# Altium integrated library WE-MI SMD Multilayer Inductor.IntLib: 59 symbols
Pins are listed as number, name and electrical type; pins without a type are passive.

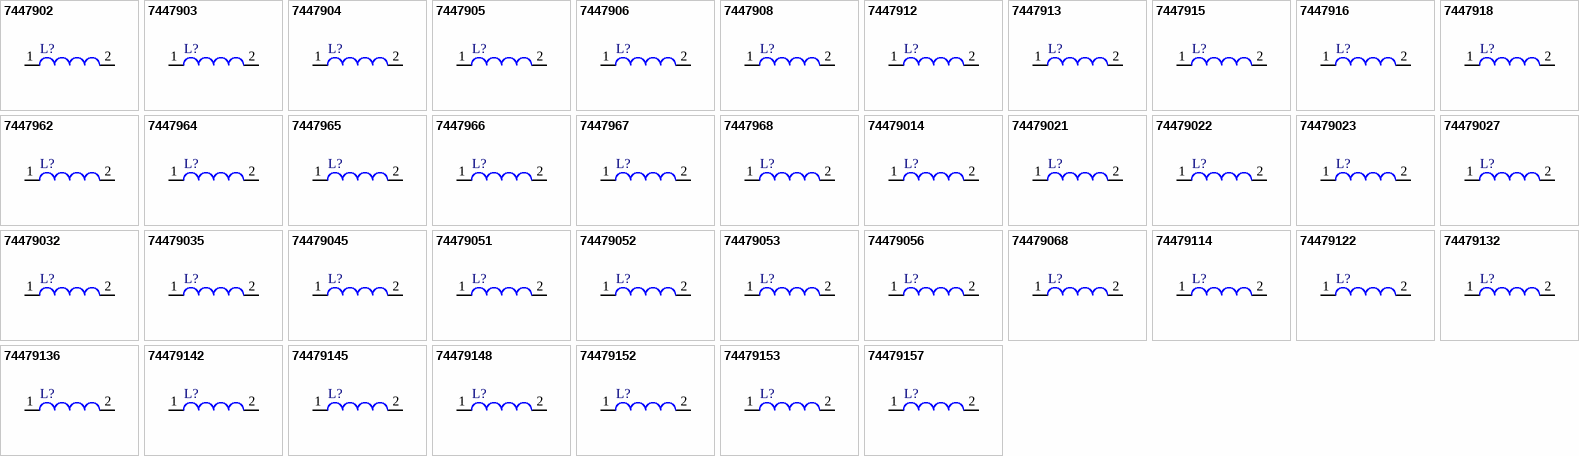
[diagram p0: symbols 7447902 to 74479157]

## 7447902
designator L?
SMD-Multilayer Inductor WE-MI, L = 0.10 µH; PartNumber: 7447902; Inductance: 0.10 µH; DatasheetVersion: ver 4, Oct-2004; PackageReference: SMD-0805; PackageDescription: Chip Inductor, 2-Leads, Body 2.0 x 1.2 mm; ComponentLink1Description: Manufacturer URL; ComponentLink1URL: http://www.we-online.com; ComponentLink2Description: Datasheet; ComponentLink2URL: http://www.we-online.de/katalog/media/pdf/7447902.pdf
footprint SMD-0805 (Chip Inductor, 2-Leads, Body 2.0x1.2x1.1 mm)
pins: 1, 2

## 7447903
designator L?
SMD-Multilayer Inductor WE-MI, L = 0.33 µH; PartNumber: 7447903; Inductance: 0.33 µH; DatasheetVersion: ver 4, Oct-2004; PackageReference: SMD-0805; PackageDescription: Chip Inductor, 2-Leads, Body 2.0 x 1.2 mm; ComponentLink1Description: Manufacturer URL; ComponentLink1URL: http://www.we-online.com; ComponentLink2Description: Datasheet; ComponentLink2URL: http://www.we-online.de/katalog/media/pdf/7447903.pdf
footprint SMD-0805 (Chip Inductor, 2-Leads, Body 2.0x1.2x1.1 mm)
pins: 1, 2

## 7447904
designator L?
SMD-Multilayer Inductor WE-MI, L = 0.68 µH; PartNumber: 7447904; Inductance: 0.68 µH; DatasheetVersion: ver 5, Jun-2008; PackageReference: SMD-0805; PackageDescription: Chip Inductor, 2-Leads, Body 2.0 x 1.2 mm; ComponentLink1Description: Manufacturer URL; ComponentLink1URL: http://www.we-online.com; ComponentLink2Description: Datasheet; ComponentLink2URL: http://www.we-online.de/katalog/media/pdf/7447904.pdf
footprint SMD-0805 (Chip Inductor, 2-Leads, Body 2.0x1.2x1.1 mm)
pins: 1, 2

## 7447905
designator L?
SMD-Multilayer Inductor WE-MI, L = 1.00 µH; PartNumber: 7447905; Inductance: 1.00 µH; DatasheetVersion: ver 4, Oct-2004; PackageReference: SMD-0805; PackageDescription: Chip Inductor, 2-Leads, Body 2.0 x 1.2 mm; ComponentLink1Description: Manufacturer URL; ComponentLink1URL: http://www.we-online.com; ComponentLink2Description: Datasheet; ComponentLink2URL: http://www.we-online.de/katalog/media/pdf/7447905.pdf
footprint SMD-0805 (Chip Inductor, 2-Leads, Body 2.0x1.2x1.1 mm)
pins: 1, 2

## 7447906
designator L?
SMD-Multilayer Inductor WE-MI, L = 4.70 µH; PartNumber: 7447906; Inductance: 4.70 µH; DatasheetVersion: ver 4, Oct-2004; PackageReference: SMD-0805; PackageDescription: Chip Inductor, 2-Leads, Body 2.0 x 1.2 mm; ComponentLink1Description: Manufacturer URL; ComponentLink1URL: http://www.we-online.com; ComponentLink2Description: Datasheet; ComponentLink2URL: http://www.we-online.de/katalog/media/pdf/7447906.pdf
footprint SMD-0805 (Chip Inductor, 2-Leads, Body 2.0x1.2x1.1 mm)
pins: 1, 2

## 7447908
designator L?
SMD-Multilayer Inductor WE-MI, L = 10.00 µH; PartNumber: 7447908; DatasheetVersion: ver 4, Oct-2004; PackageReference: SMD-0805; PackageDescription: Chip Inductor, 2-Leads, Body 2.0 x 1.2 mm; Inductance: 10.00 µH; ComponentLink1Description: Manufacturer URL; ComponentLink1URL: http://www.we-online.com; ComponentLink2Description: Datasheet; ComponentLink2URL: http://www.we-online.de/katalog/media/pdf/7447908.pdf
footprint SMD-0805 (Chip Inductor, 2-Leads, Body 2.0x1.2x1.1 mm)
pins: 1, 2

## 7447912
designator L?
SMD-Multilayer Inductor WE-MI, L = 0.10 µH; PartNumber: 7447912; Inductance: 0.10 µH; DatasheetVersion: ver 5, Oct-2004; PackageReference: SMD-1210; PackageDescription: Chip Inductor, 2-Leads, Body 3.2 x 2.5 mm; ComponentLink1Description: Manufacturer URL; ComponentLink1URL: http://www.we-online.com; ComponentLink2Description: Datasheet; ComponentLink2URL: http://www.we-online.de/katalog/media/pdf/7447912.pdf
footprint SMD-1210 (Chip Inductor, 2-Leads, Body 3.2x2.5x1.5 mm)
pins: 1, 2

## 7447913
designator L?
SMD-Multilayer Inductor WE-MI, L = 0.33 µH; PartNumber: 7447913; Inductance: 0.33 µH; DatasheetVersion: ver 5, Oct-2004; PackageReference: SMD-1210; PackageDescription: Chip Inductor, 2-Leads, Body 3.2 x 2.5 mm; ComponentLink1Description: Manufacturer URL; ComponentLink1URL: http://www.we-online.com; ComponentLink2Description: Datasheet; ComponentLink2URL: http://www.we-online.de/katalog/media/pdf/7447913.pdf
footprint SMD-1210 (Chip Inductor, 2-Leads, Body 3.2x2.5x1.5 mm)
pins: 1, 2

## 7447915
designator L?
SMD-Multilayer Inductor WE-MI, L = 1.00 µH; PartNumber: 7447915; Inductance: 1.00 µH; DatasheetVersion: ver 5, Oct-2004; PackageReference: SMD-1210; PackageDescription: Chip Inductor, 2-Leads, Body 3.2 x 2.5 mm; ComponentLink1Description: Manufacturer URL; ComponentLink1URL: http://www.we-online.com; ComponentLink2Description: Datasheet; ComponentLink2URL: http://www.we-online.de/katalog/media/pdf/7447915.pdf
footprint SMD-1210 (Chip Inductor, 2-Leads, Body 3.2x2.5x1.5 mm)
pins: 1, 2

## 7447916
designator L?
SMD-Multilayer Inductor WE-MI, L = 4.70 µH; PartNumber: 7447916; Inductance: 4.70 µH; DatasheetVersion: ver 5, Oct-2004; PackageReference: SMD-1210; PackageDescription: Chip Inductor, 2-Leads, Body 3.2 x 2.5 mm; ComponentLink1Description: Manufacturer URL; ComponentLink1URL: http://www.we-online.com; ComponentLink2Description: Datasheet; ComponentLink2URL: http://www.we-online.de/katalog/media/pdf/7447916.pdf
footprint SMD-1210 (Chip Inductor, 2-Leads, Body 3.2x2.5x1.5 mm)
pins: 1, 2

## 7447918
designator L?
SMD-Multilayer Inductor WE-MI, L = 10.00 µH; PartNumber: 7447918; DatasheetVersion: ver 5, Oct-2004; PackageReference: SMD-1210; PackageDescription: Chip Inductor, 2-Leads, Body 3.2 x 2.5 mm; Inductance: 10.00 µH; ComponentLink1Description: Manufacturer URL; ComponentLink1URL: http://www.we-online.com; ComponentLink2Description: Datasheet; ComponentLink2URL: http://www.we-online.de/katalog/media/pdf/7447918.pdf
footprint SMD-1210 (Chip Inductor, 2-Leads, Body 3.2x2.5x1.5 mm)
pins: 1, 2

## 7447962
designator L?
SMD-Multilayer Inductor WE-MI, L = 0.10µH; PartNumber: 7447962; DatasheetVersion: ver 5, Oct-2004; PackageReference: SMD-0603; PackageDescription: Chip Inductor, 2-Leads, Body 1.6 x 0.8 mm; Inductance: 0.10 µH; ComponentLink1Description: Manufacturer URL; ComponentLink1URL: http://www.we-online.com; ComponentLink2Description: Datasheet; ComponentLink2URL: http://www.we-online.de/katalog/media/pdf/7447962.pdf
footprint SMD-0603 (Chip Inductor, 2-Leads, Body 1.6x0.8x0.95 mm)
pins: 1, 2

## 7447964
designator L?
SMD-Multilayer Inductor WE-MI, L = 0.68 µH; PartNumber: 7447964; Inductance: 0.68 µH; DatasheetVersion: ver 1, Mar-2009; PackageReference: SMD-0603; PackageDescription: Chip Inductor, 2-Leads, Body 1.6 x 0.8 mm; ComponentLink1Description: Manufacturer URL; ComponentLink1URL: http://www.we-online.com; ComponentLink2Description: Datasheet; ComponentLink2URL: http://www.we-online.de/katalog/media/pdf/7447964.pdf
footprint SMD-0603 (Chip Inductor, 2-Leads, Body 1.6x0.8x0.95 mm)
pins: 1, 2

## 7447965
designator L?
SMD-Multilayer Inductor WE-MI, L = 1.00 µH; PartNumber: 7447965; Inductance: 1.00 µH; DatasheetVersion: ver 5, Oct-2004; PackageReference: SMD-0603; PackageDescription: Chip Inductor, 2-Leads, Body 1.6 x 0.8 mm; ComponentLink1Description: Manufacturer URL; ComponentLink1URL: http://www.we-online.com; ComponentLink2Description: Datasheet; ComponentLink2URL: http://www.we-online.de/katalog/media/pdf/7447965.pdf
footprint SMD-0603 (Chip Inductor, 2-Leads, Body 1.6x0.8x0.95 mm)
pins: 1, 2

## 7447966
designator L?
SMD-Multilayer Inductor WE-MI, L = 4.70 µH; PartNumber: 7447966; Inductance: 4.70 µH; DatasheetVersion: ver 5, Oct-2004; PackageReference: SMD-0603; PackageDescription: Chip Inductor, 2-Leads, Body 1.6 x 0.8 mm; ComponentLink1Description: Manufacturer URL; ComponentLink1URL: http://www.we-online.com; ComponentLink2Description: Datasheet; ComponentLink2URL: http://www.we-online.de/katalog/media/pdf/7447966.pdf
footprint SMD-0603 (Chip Inductor, 2-Leads, Body 1.6x0.8x0.95 mm)
pins: 1, 2

## 7447967
designator L?
SMD-Multilayer Inductor WE-MI, L = 8.20 µH; PartNumber: 7447967; Inductance: 8.20 µH; DatasheetVersion: ver 5, Oct-2004; PackageReference: SMD-0603; PackageDescription: Chip Inductor, 2-Leads, Body 1.6 x 0.8 mm; ComponentLink1Description: Manufacturer URL; ComponentLink1URL: http://www.we-online.com; ComponentLink2Description: Datasheet; ComponentLink2URL: http://www.we-online.de/katalog/media/pdf/7447967.pdf
footprint SMD-0603 (Chip Inductor, 2-Leads, Body 1.6x0.8x0.95 mm)
pins: 1, 2

## 7447968
designator L?
SMD-Multilayer Inductor WE-MI, L = 10.00 µH; PartNumber: 7447968; DatasheetVersion: ver 5, Oct-2004; PackageReference: SMD-0603; PackageDescription: Chip Inductor, 2-Leads, Body 1.6 x 0.8 mm; Inductance: 10.00 µH; ComponentLink1Description: Manufacturer URL; ComponentLink1URL: http://www.we-online.com; ComponentLink2Description: Datasheet; ComponentLink2URL: http://www.we-online.de/katalog/media/pdf/7447968.pdf
footprint SMD-0603 (Chip Inductor, 2-Leads, Body 1.6x0.8x0.95 mm)
pins: 1, 2

## 74479014
designator L?
SMD-Multilayer Inductor WE-MI, L = 0.047 µH; PartNumber: 74479014; DatasheetVersion: ver 4, Oct-2004; PackageReference: SMD-0805; PackageDescription: Chip Inductor, 2-Leads, Body 2.0 x 1.2 mm; Inductance: 0.047 µH; ComponentLink1Description: Manufacturer URL; ComponentLink1URL: http://www.we-online.com; ComponentLink2Description: Datasheet; ComponentLink2URL: http://www.we-online.de/katalog/media/pdf/74479014.pdf
footprint SMD-0805 (Chip Inductor, 2-Leads, Body 2.0x1.2x1.1 mm)
pins: 1, 2

## 74479021
designator L?
SMD-Multilayer Inductor WE-MI, L = 0.10 µH; PartNumber: 74479021; Inductance: 0.10 µH; DatasheetVersion: ver 4, Oct-2004; PackageReference: SMD-0805; PackageDescription: Chip Inductor, 2-Leads, Body 2.0 x 1.2 mm; ComponentLink1Description: Manufacturer URL; ComponentLink1URL: http://www.we-online.com; ComponentLink2Description: Datasheet; ComponentLink2URL: http://www.we-online.de/katalog/media/pdf/74479021.pdf
footprint SMD-0805 (Chip Inductor, 2-Leads, Body 2.0x1.2x1.1 mm)
pins: 1, 2

## 74479022
designator L?
SMD-Multilayer Inductor WE-MI, L = 0.15 µH; PartNumber: 74479022; Inductance: 0.15 µH; DatasheetVersion: ver 4, Oct-2004; PackageReference: SMD-0805; PackageDescription: Chip Inductor, 2-Leads, Body 2.0 x 1.2 mm; ComponentLink1Description: Manufacturer URL; ComponentLink1URL: http://www.we-online.com; ComponentLink2Description: Datasheet; ComponentLink2URL: http://www.we-online.de/katalog/media/pdf/74479022.pdf
footprint SMD-0805 (Chip Inductor, 2-Leads, Body 2.0x1.2x1.1 mm)
pins: 1, 2

## 74479023
designator L?
SMD-Multilayer Inductor WE-MI, L = 0.22 µH; PartNumber: 74479023; Inductance: 0.22 µH; DatasheetVersion: ver 4, Oct-2004; PackageReference: SMD-0805; PackageDescription: Chip Inductor, 2-Leads, Body 2.0 x 1.2 mm; ComponentLink1Description: Manufacturer URL; ComponentLink1URL: http://www.we-online.com; ComponentLink2Description: Datasheet; ComponentLink2URL: http://www.we-online.de/katalog/media/pdf/74479023.pdf
footprint SMD-0805 (Chip Inductor, 2-Leads, Body 2.0x1.2x1.1 mm)
pins: 1, 2

## 74479027
designator L?
SMD-Multilayer Inductor WE-MI, L = 0.27 µH; PartNumber: 74479027; Inductance: 0.27 µH; DatasheetVersion: ver 4, Oct-2004; PackageReference: SMD-0805; PackageDescription: Chip Inductor, 2-Leads, Body 2.0 x 1.2 mm; ComponentLink1Description: Manufacturer URL; ComponentLink1URL: http://www.we-online.com; ComponentLink2Description: Datasheet; ComponentLink2URL: http://www.we-online.de/katalog/media/pdf/74479027.pdf
footprint SMD-0805 (Chip Inductor, 2-Leads, Body 2.0x1.2x1.1 mm)
pins: 1, 2

## 74479032
designator L?
SMD-Multilayer Inductor WE-MI, L = 0.47 µH; PartNumber: 74479032; Inductance: 0.47 µH; DatasheetVersion: ver 4, Oct-2004; PackageReference: SMD-0805; PackageDescription: Chip Inductor, 2-Leads, Body 2.0 x 1.2 mm; ComponentLink1Description: Manufacturer URL; ComponentLink1URL: http://www.we-online.com; ComponentLink2Description: Datasheet; ComponentLink2URL: http://www.we-online.de/katalog/media/pdf/74479032.pdf
footprint SMD-0805 (Chip Inductor, 2-Leads, Body 2.0x1.2x1.1 mm)
pins: 1, 2

## 74479035
designator L?
SMD-Multilayer Inductor WE-MI, L = 0.56 µH; PartNumber: 74479035; Inductance: 0.56 µH; DatasheetVersion: ver 1, Nov-2006; PackageReference: SMD-0805; PackageDescription: Chip Inductor, 2-Leads, Body 2.0 x 1.2 mm; ComponentLink1Description: Manufacturer URL; ComponentLink1URL: http://www.we-online.com; ComponentLink2Description: Datasheet; ComponentLink2URL: http://www.we-online.de/katalog/media/pdf/74479035.pdf
footprint SMD-0805 (Chip Inductor, 2-Leads, Body 2.0x1.2x1.1 mm)
pins: 1, 2

## 74479045
designator L?
SMD-Multilayer Inductor WE-MI, L = 0.82 µH; PartNumber: 74479045; Inductance: 0.82 µH; DatasheetVersion: ver 5, Jun-2008; PackageReference: SMD-0805; PackageDescription: Chip Inductor, 2-Leads, Body 2.0 x 1.2 mm; ComponentLink1Description: Manufacturer URL; ComponentLink1URL: http://www.we-online.com; ComponentLink2Description: Datasheet; ComponentLink2URL: http://www.we-online.de/katalog/media/pdf/74479045.pdf
footprint SMD-0805 (Chip Inductor, 2-Leads, Body 2.0x1.2x1.1 mm)
pins: 1, 2

## 74479051
designator L?
SMD-Multilayer Inductor WE-MI, L = 1.80 µH; PartNumber: 74479051; Inductance: 1.80 µH; DatasheetVersion: ver 4, Oct-2004; PackageReference: SMD-0805; PackageDescription: Chip Inductor, 2-Leads, Body 2.0 x 1.2 mm; ComponentLink1Description: Manufacturer URL; ComponentLink1URL: http://www.we-online.com; ComponentLink2Description: Datasheet; ComponentLink2URL: http://www.we-online.de/katalog/media/pdf/74479051.pdf
footprint SMD-0805 (Chip Inductor, 2-Leads, Body 2.0x1.2x1.1 mm)
pins: 1, 2

## 74479052
designator L?
SMD-Multilayer Inductor WE-MI, L = 2.20 µH; PartNumber: 74479052; Inductance: 2.20 µH; DatasheetVersion: ver 4, Oct-2004; PackageReference: SMD-0805; PackageDescription: Chip Inductor, 2-Leads, Body 2.0 x 1.2 mm; ComponentLink1Description: Manufacturer URL; ComponentLink1URL: http://www.we-online.com; ComponentLink2Description: Datasheet; ComponentLink2URL: http://www.we-online.de/katalog/media/pdf/74479052.pdf
footprint SMD-0805 (Chip Inductor, 2-Leads, Body 2.0x1.2x1.1 mm)
pins: 1, 2

## 74479053
designator L?
SMD-Multilayer Inductor WE-MI, L = 3.30 µH; PartNumber: 74479053; Inductance: 3.30 µH; DatasheetVersion: ver 4, Oct-2004; PackageReference: SMD-0805; PackageDescription: Chip Inductor, 2-Leads, Body 2.0 x 1.2 mm; ComponentLink1Description: Manufacturer URL; ComponentLink1URL: http://www.we-online.com; ComponentLink2Description: Datasheet; ComponentLink2URL: http://www.we-online.de/katalog/media/pdf/74479053.pdf
footprint SMD-0805 (Chip Inductor, 2-Leads, Body 2.0x1.2x1.1 mm)
pins: 1, 2

## 74479056
designator L?
SMD-Multilayer Inductor WE-MI, L = 5.60 µH; PartNumber: 74479056; Inductance: 5.60 µH; DatasheetVersion: ver 4, Oct-2004; PackageReference: SMD-0805; PackageDescription: Chip Inductor, 2-Leads, Body 2.0 x 1.2 mm; ComponentLink1Description: Manufacturer URL; ComponentLink1URL: http://www.we-online.com; ComponentLink2Description: Datasheet; ComponentLink2URL: http://www.we-online.de/katalog/media/pdf/74479056.pdf
footprint SMD-0805 (Chip Inductor, 2-Leads, Body 2.0x1.2x1.1 mm)
pins: 1, 2

## 74479068
designator L?
SMD-Multilayer Inductor WE-MI, L = 6.80 µH; PartNumber: 74479068; Inductance: 6.80 µH; DatasheetVersion: ver 4, Oct-2004; PackageReference: SMD-0805; PackageDescription: Chip Inductor, 2-Leads, Body 2.0 x 1.2 mm; ComponentLink1Description: Manufacturer URL; ComponentLink1URL: http://www.we-online.com; ComponentLink2Description: Datasheet; ComponentLink2URL: http://www.we-online.de/katalog/media/pdf/74479068.pdf
footprint SMD-0805 (Chip Inductor, 2-Leads, Body 2.0x1.2x1.1 mm)
pins: 1, 2

## 74479114
designator L?
SMD-Multilayer Inductor WE-MI, L = 0.047 µH; PartNumber: 74479114; DatasheetVersion: ver 5, Oct-2004; PackageReference: SMD-1210; PackageDescription: Chip Inductor, 2-Leads, Body 3.2 x 2.5 mm; Inductance: 0.047 µH; ComponentLink1Description: Manufacturer URL; ComponentLink1URL: http://www.we-online.com; ComponentLink2Description: Datasheet; ComponentLink2URL: http://www.we-online.de/katalog/media/pdf/74479114.pdf
footprint SMD-1210 (Chip Inductor, 2-Leads, Body 3.2x2.5x1.5 mm)
pins: 1, 2

## 74479122
designator L?
SMD-Multilayer Inductor WE-MI, L = 0.15 µH; PartNumber: 74479122; Inductance: 0.15 µH; DatasheetVersion: ver 5, Oct-2004; PackageReference: SMD-1210; PackageDescription: Chip Inductor, 2-Leads, Body 3.2 x 2.5 mm; ComponentLink1Description: Manufacturer URL; ComponentLink1URL: http://www.we-online.com; ComponentLink2Description: Datasheet; ComponentLink2URL: http://www.we-online.de/katalog/media/pdf/74479122.pdf
footprint SMD-1210 (Chip Inductor, 2-Leads, Body 3.2x2.5x1.5 mm)
pins: 1, 2

## 74479132
designator L?
SMD-Multilayer Inductor WE-MI, L = 0.47 µH; PartNumber: 74479132; Inductance: 0.47 µH; DatasheetVersion: ver 5, Oct-2004; PackageReference: SMD-1210; PackageDescription: Chip Inductor, 2-Leads, Body 3.2 x 2.5 mm; ComponentLink1Description: Manufacturer URL; ComponentLink1URL: http://www.we-online.com; ComponentLink2Description: Datasheet; ComponentLink2URL: http://www.we-online.de/katalog/media/pdf/74479132.pdf
footprint SMD-1210 (Chip Inductor, 2-Leads, Body 3.2x2.5x1.5 mm)
pins: 1, 2

## 74479136
designator L?
SMD-Multilayer Inductor WE-MI, L = 0.68 µH; PartNumber: 74479136; Inductance: 0.68 µH; DatasheetVersion: ver 5, Oct-2004; PackageReference: SMD-1210; PackageDescription: Chip Inductor, 2-Leads, Body 3.2 x 2.5 mm; ComponentLink1Description: Manufacturer URL; ComponentLink1URL: http://www.we-online.com; ComponentLink2Description: Datasheet; ComponentLink2URL: http://www.we-online.de/katalog/media/pdf/74479136.pdf
footprint SMD-1210 (Chip Inductor, 2-Leads, Body 3.2x2.5x1.5 mm)
pins: 1, 2

## 74479142
designator L?
SMD-Multilayer Inductor WE-MI, L = 1.20 µH; PartNumber: 74479142; Inductance: 1.20 µH; DatasheetVersion: ver 5, Oct-2004; PackageReference: SMD-1210; PackageDescription: Chip Inductor, 2-Leads, Body 3.2 x 2.5 mm; ComponentLink1Description: Manufacturer URL; ComponentLink1URL: http://www.we-online.com; ComponentLink2Description: Datasheet; ComponentLink2URL: http://www.we-online.de/katalog/media/pdf/74479142.pdf
footprint SMD-1210 (Chip Inductor, 2-Leads, Body 3.2x2.5x1.5 mm)
pins: 1, 2

## 74479145
designator L?
SMD-Multilayer Inductor WE-MI, L = 1.50 µH; PartNumber: 74479145; Inductance: 1.50 µH; DatasheetVersion: ver 5, Oct-2004; PackageReference: SMD-1210; PackageDescription: Chip Inductor, 2-Leads, Body 3.2 x 2.5 mm; ComponentLink1Description: Manufacturer URL; ComponentLink1URL: http://www.we-online.com; ComponentLink2Description: Datasheet; ComponentLink2URL: http://www.we-online.de/katalog/media/pdf/74479145.pdf
footprint SMD-1210 (Chip Inductor, 2-Leads, Body 3.2x2.5x1.5 mm)
pins: 1, 2

## 74479148
designator L?
SMD-Multilayer Inductor WE-MI, L = 1.80 µH; PartNumber: 74479148; Inductance: 1.80 µH; DatasheetVersion: ver 5, Oct-2004; PackageReference: SMD-1210; PackageDescription: Chip Inductor, 2-Leads, Body 3.2 x 2.5 mm; ComponentLink1Description: Manufacturer URL; ComponentLink1URL: http://www.we-online.com; ComponentLink2Description: Datasheet; ComponentLink2URL: http://www.we-online.de/katalog/media/pdf/74479148.pdf
footprint SMD-1210 (Chip Inductor, 2-Leads, Body 3.2x2.5x1.5 mm)
pins: 1, 2

## 74479152
designator L?
SMD-Multilayer Inductor WE-MI, L = 2.20 µH; PartNumber: 74479152; Inductance: 2.20 µH; DatasheetVersion: ver 5, Oct-2004; PackageReference: SMD-1210; PackageDescription: Chip Inductor, 2-Leads, Body 3.2 x 2.5 mm; ComponentLink1Description: Manufacturer URL; ComponentLink1URL: http://www.we-online.com; ComponentLink2Description: Datasheet; ComponentLink2URL: http://www.we-online.de/katalog/media/pdf/74479152.pdf
footprint SMD-1210 (Chip Inductor, 2-Leads, Body 3.2x2.5x1.5 mm)
pins: 1, 2

## 74479153
designator L?
SMD-Multilayer Inductor WE-MI, L = 3.30 µH; PartNumber: 74479153; Inductance: 3.30 µH; DatasheetVersion: ver 5, Oct-2004; PackageReference: SMD-1210; PackageDescription: Chip Inductor, 2-Leads, Body 3.2 x 2.5 mm; ComponentLink1Description: Manufacturer URL; ComponentLink1URL: http://www.we-online.com; ComponentLink2Description: Datasheet; ComponentLink2URL: http://www.we-online.de/katalog/media/pdf/74479153.pdf
footprint SMD-1210 (Chip Inductor, 2-Leads, Body 3.2x2.5x1.5 mm)
pins: 1, 2

## 74479157
designator L?
SMD-Multilayer Inductor WE-MI, L = 2.70 µH; PartNumber: 74479157; Inductance: 2.70 µH; DatasheetVersion: ver 5, Oct-2004; PackageReference: SMD-1210; PackageDescription: Chip Inductor, 2-Leads, Body 3.2 x 2.5 mm; ComponentLink1Description: Manufacturer URL; ComponentLink1URL: http://www.we-online.com; ComponentLink2Description: Datasheet; ComponentLink2URL: http://www.we-online.de/katalog/media/pdf/74479157.pdf
footprint SMD-1210 (Chip Inductor, 2-Leads, Body 3.2x2.5x1.5 mm)
pins: 1, 2

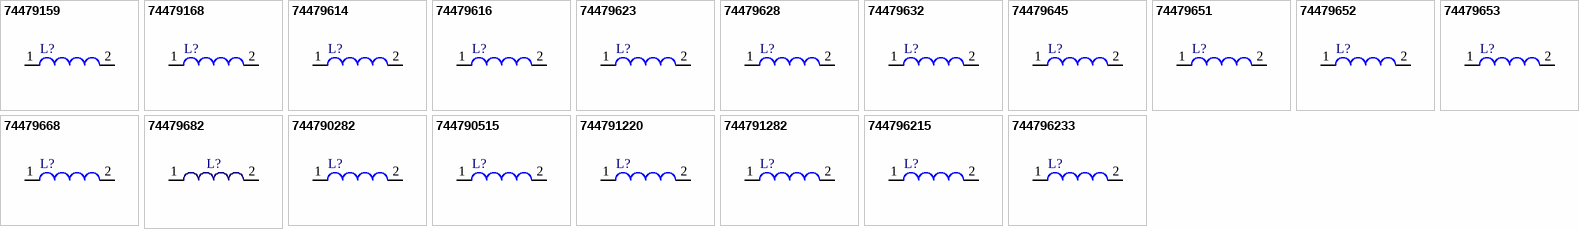
[diagram p1: symbols 74479159 to 744796233]

## 74479159
designator L?
SMD-Multilayer Inductor WE-MI, L = 3.90 µH; PartNumber: 74479159; Inductance: 3.90 µH; DatasheetVersion: ver 5, Oct-2004; PackageReference: SMD-1210; PackageDescription: Chip Inductor, 2-Leads, Body 3.2 x 2.5 mm; ComponentLink1Description: Manufacturer URL; ComponentLink1URL: http://www.we-online.com; ComponentLink2Description: Datasheet; ComponentLink2URL: http://www.we-online.de/katalog/media/pdf/74479159.pdf
footprint SMD-1210 (Chip Inductor, 2-Leads, Body 3.2x2.5x1.5 mm)
pins: 1, 2

## 74479168
designator L?
SMD-Multilayer Inductor WE-MI, L = 6.80 µH; PartNumber: 74479168; Inductance: 6.80 µH; DatasheetVersion: ver 5, Oct-2004; PackageReference: SMD-1210; PackageDescription: Chip Inductor, 2-Leads, Body 3.2 x 2.5 mm; ComponentLink1Description: Manufacturer URL; ComponentLink1URL: http://www.we-online.com; ComponentLink2Description: Datasheet; ComponentLink2URL: http://www.we-online.de/katalog/media/pdf/74479168.pdf
footprint SMD-1210 (Chip Inductor, 2-Leads, Body 3.2x2.5x1.5 mm)
pins: 1, 2

## 74479614
designator L?
SMD-Multilayer Inductor WE-MI, L = 0.047 µH; PartNumber: 74479614; DatasheetVersion: ver 5, Oct-2004; PackageReference: SMD-0603; PackageDescription: Chip Inductor, 2-Leads, Body 1.6 x 0.8 mm; Inductance: 0.047 µH; ComponentLink1Description: Manufacturer URL; ComponentLink1URL: http://www.we-online.com; ComponentLink2Description: Datasheet; ComponentLink2URL: http://www.we-online.de/katalog/media/pdf/74479614.pdf
footprint SMD-0603 (Chip Inductor, 2-Leads, Body 1.6x0.8x0.95 mm)
pins: 1, 2

## 74479616
designator L?
SMD-Multilayer Inductor WE-MI, L = 0.068 µH; PartNumber: 74479616; DatasheetVersion: ver 5, Oct-2004; PackageReference: SMD-0603; PackageDescription: Chip Inductor, 2-Leads, Body 1.6 x 0.8 mm; Inductance: 0.068 µH; ComponentLink1Description: Manufacturer URL; ComponentLink1URL: http://www.we-online.com; ComponentLink2Description: Datasheet; ComponentLink2URL: http://www.we-online.de/katalog/media/pdf/74479616.pdf
footprint SMD-0603 (Chip Inductor, 2-Leads, Body 1.6x0.8x0.95 mm)
pins: 1, 2

## 74479623
designator L?
SMD-Multilayer Inductor WE-MI, L = 0.22 µH; PartNumber: 74479623; Inductance: 0.22 µH; DatasheetVersion: ver 5, Oct-2004; PackageReference: SMD-0603; PackageDescription: Chip Inductor, 2-Leads, Body 1.6 x 0.8 mm; ComponentLink1Description: Manufacturer URL; ComponentLink1URL: http://www.we-online.com; ComponentLink2Description: Datasheet; ComponentLink2URL: http://www.we-online.de/katalog/media/pdf/74479623.pdf
footprint SMD-0603 (Chip Inductor, 2-Leads, Body 1.6x0.8x0.95 mm)
pins: 1, 2

## 74479628
designator L?
SMD-Multilayer Inductor WE-MI, L = 0.82 µH; PartNumber: 74479628; Inductance: 0.82 µH; DatasheetVersion: ver 5, Oct-2004; PackageReference: SMD-0603; PackageDescription: Chip Inductor, 2-Leads, Body 1.6 x 0.8 mm; ComponentLink1Description: Manufacturer URL; ComponentLink1URL: http://www.we-online.com; ComponentLink2Description: Datasheet; ComponentLink2URL: http://www.we-online.de/katalog/media/pdf/74479628.pdf
footprint SMD-0603 (Chip Inductor, 2-Leads, Body 1.6x0.8x0.95 mm)
pins: 1, 2

## 74479632
designator L?
SMD-Multilayer Inductor WE-MI, L = 0.47 µH; PartNumber: 74479632; Inductance: 0.47µH; DatasheetVersion: ver 5, Oct-2004; PackageReference: SMD-0603; PackageDescription: Chip Inductor, 2-Leads, Body 1.6 x 0.8 mm; ComponentLink1Description: Manufacturer URL; ComponentLink1URL: http://www.we-online.com; ComponentLink2Description: Datasheet; ComponentLink2URL: http://www.we-online.de/katalog/media/pdf/74479632.pdf
footprint SMD-0603 (Chip Inductor, 2-Leads, Body 1.6x0.8x0.95 mm)
pins: 1, 2

## 74479645
designator L?
SMD-Multilayer Inductor WE-MI, L = 0.56 µH; PartNumber: 74479645; Inductance: 0.56 µH; DatasheetVersion: ver 5, Oct-2004; PackageReference: SMD-0603; PackageDescription: Chip Inductor, 2-Leads, Body 1.6 x 0.8 mm; ComponentLink1Description: Manufacturer URL; ComponentLink1URL: http://www.we-online.com; ComponentLink2Description: Datasheet; ComponentLink2URL: http://www.we-online.de/katalog/media/pdf/74479645.pdf
footprint SMD-0603 (Chip Inductor, 2-Leads, Body 1.6x0.8x0.95 mm)
pins: 1, 2

## 74479651
designator L?
SMD-Multilayer Inductor WE-MI, L = 1.80 µH; PartNumber: 74479651; Inductance: 1.80 µH; DatasheetVersion: ver 5, Oct-2004; PackageReference: SMD-0603; PackageDescription: Chip Inductor, 2-Leads, Body 1.6 x 0.8 mm; ComponentLink1Description: Manufacturer URL; ComponentLink1URL: http://www.we-online.com; ComponentLink2Description: Datasheet; ComponentLink2URL: http://www.we-online.de/katalog/media/pdf/74479651.pdf
footprint SMD-0603 (Chip Inductor, 2-Leads, Body 1.6x0.8x0.95 mm)
pins: 1, 2

## 74479652
designator L?
SMD-Multilayer Inductor WE-MI, L = 2.20 µH; PartNumber: 74479652; Inductance: 2.20 µH; DatasheetVersion: ver 5, Oct-2004; PackageReference: SMD-0603; PackageDescription: Chip Inductor, 2-Leads, Body 1.6 x 0.8 mm; ComponentLink1Description: Manufacturer URL; ComponentLink1URL: http://www.we-online.com; ComponentLink2Description: Datasheet; ComponentLink2URL: http://www.we-online.de/katalog/media/pdf/74479652.pdf
footprint SMD-0603 (Chip Inductor, 2-Leads, Body 1.6x0.8x0.95 mm)
pins: 1, 2

## 74479653
designator L?
SMD-Multilayer Inductor WE-MI, L = 3.30 µH; PartNumber: 74479653; Inductance: 3.30 µH; DatasheetVersion: ver 5, Oct-2004; PackageReference: SMD-0603; PackageDescription: Chip Inductor, 2-Leads, Body 1.6 x 0.8 mm; ComponentLink1Description: Manufacturer URL; ComponentLink1URL: http://www.we-online.com; ComponentLink2Description: Datasheet; ComponentLink2URL: http://www.we-online.de/katalog/media/pdf/74479653.pdf
footprint SMD-0603 (Chip Inductor, 2-Leads, Body 1.6x0.8x0.95 mm)
pins: 1, 2

## 74479668
designator L?
SMD-Multilayer Inductor WE-MI, L = 6.80 µH; PartNumber: 74479668; Inductance: 6.80 µH; DatasheetVersion: ver 5, Oct-2004; PackageReference: SMD-0603; PackageDescription: Chip Inductor, 2-Leads, Body 1.6 x 0.8 mm; ComponentLink1Description: Manufacturer URL; ComponentLink1URL: http://www.we-online.com; ComponentLink2Description: Datasheet; ComponentLink2URL: http://www.we-online.de/katalog/media/pdf/74479668.pdf
footprint SMD-0603 (Chip Inductor, 2-Leads, Body 1.6x0.8x0.95 mm)
pins: 1, 2

## 74479682
designator L?
SMD-Multilayer Inductor WE-MI, L=0.82 µH; PartNumber: 74479682; Inductance: 0.82 µH; PackageReference: SMD-0603; PackageDescription: Chip Inductor, 2-Leads, Body 1.6 x 0.8 mm; ComponentLink1Description: Manufacturer URL; ComponentLink1URL: http://www.we-online.com; ComponentLink2Description: Datasheet; ComponentLink2URL: http://www.we-online.de/katalog/media/pdf/74479628.pdf
footprint SMD-0603 (Chip Inductor, 2-Leads, Body 1.6x0.8x0.95 mm)
pins: 1, 2

## 744790282
designator L?
SMD-Multilayer Inductor WE-MI, L = 8.20 µH; PartNumber: 744790282; Inductance: 8.20 µH; DatasheetVersion: ver 1, May-2007; PackageReference: SMD-0805; PackageDescription: Chip Inductor, 2-Leads, Body 2.0 x 1.2 mm; ComponentLink1Description: Manufacturer URL; ComponentLink1URL: http://www.we-online.com; ComponentLink2Description: Datasheet; ComponentLink2URL: http://www.we-online.de/katalog/media/pdf/744790282.pdf
footprint SMD-0805 (Chip Inductor, 2-Leads, Body 2.0x1.2x1.1 mm)
pins: 1, 2

## 744790515
designator L?
SMD-Multilayer Inductor WE-MI, L = 1.50 µH; PartNumber: 744790515; Inductance: 1.50 µH; DatasheetVersion: ver 4, Oct-2004; PackageReference: SMD-0805; PackageDescription: Chip Inductor, 2-Leads, Body 2.0 x 1.2 mm; ComponentLink1Description: Manufacturer URL; ComponentLink1URL: http://www.we-online.com; ComponentLink2Description: Datasheet; ComponentLink2URL: http://www.we-online.de/katalog/media/pdf/744790515.pdf
footprint SMD-0805 (Chip Inductor, 2-Leads, Body 2.0x1.2x1.1 mm)
pins: 1, 2

## 744791220
designator L?
SMD-Multilayer Inductor WE-MI, L = 0.22 µH; PartNumber: 744791220; Inductance: 0.22 µH; DatasheetVersion: ver 5, Oct-2004; PackageReference: SMD-1210; PackageDescription: Chip Inductor, 2-Leads, Body 3.2 x 2.5 mm; ComponentLink1Description: Manufacturer URL; ComponentLink1URL: http://www.we-online.com; ComponentLink2Description: Datasheet; ComponentLink2URL: http://www.we-online.de/katalog/media/pdf/744791220.pdf
footprint SMD-1210 (Chip Inductor, 2-Leads, Body 3.2x2.5x1.5 mm)
pins: 1, 2

## 744791282
designator L?
SMD-Multilayer Inductor WE-MI, L = 8.20 µH; PartNumber: 744791282; Inductance: 8.20 µH; DatasheetVersion: ver 1, May-2007; PackageReference: SMD-1210; PackageDescription: Chip Inductor, 2-Leads, Body 3.2 x 2.5 mm; ComponentLink1Description: Manufacturer URL; ComponentLink1URL: http://www.we-online.com; ComponentLink2Description: Datasheet; ComponentLink2URL: http://www.we-online.de/katalog/media/pdf/744791282.pdf
footprint SMD-1210 (Chip Inductor, 2-Leads, Body 3.2x2.5x1.5 mm)
pins: 1, 2

## 744796215
designator L?
SMD-Multilayer Inductor WE-MI, L = 1.50 µH; PartNumber: 744796215; Inductance: 1.50 µH; DatasheetVersion: ver 1, Aug-2007; PackageReference: SMD-0603; PackageDescription: Chip Inductor, 2-Leads, Body 1.6 x 0.8 mm; ComponentLink1Description: Manufacturer URL; ComponentLink1URL: http://www.we-online.com; ComponentLink2Description: Datasheet; ComponentLink2URL: http://www.we-online.de/katalog/media/pdf/744796215.pdf
footprint SMD-0603 (Chip Inductor, 2-Leads, Body 1.6x0.8x0.95 mm)
pins: 1, 2

## 744796233
designator L?
SMD-Multilayer Inductor WE-MI, L = 0.33 µH; PartNumber: 744796233; Inductance: 0.33 µH; DatasheetVersion: ver 5, Oct-2004; PackageReference: SMD-0603; PackageDescription: Chip Inductor, 2-Leads, Body 1.6 x 0.8 mm; ComponentLink1Description: Manufacturer URL; ComponentLink1URL: http://www.we-online.com; ComponentLink2Description: Datasheet; ComponentLink2URL: http://www.we-online.de/katalog/media/pdf/744796233.pdf
footprint SMD-0603 (Chip Inductor, 2-Leads, Body 1.6x0.8x0.95 mm)
pins: 1, 2